# Altium integrated library Светодиод.IntLib: 1 symbol
Pins are listed as number, name and electrical type; pins without a type are passive.

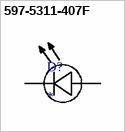
[diagram p0: symbol 597-5311-407F]

## 597-5311-407F
designator D?
Indicators; Surface Mount; LED; SMD; Green; Right Angle; 25 mA | Dialight 597-5311-407F; Типоразмер: 0805; Цвет: Зеленый
footprint LEDC2012X70N
pins: A, C